# Altium footprint library HeadersPin_1rows_F_180.PcbLib: 10 footprints
Each footprint in its own frame and in the unit in brackets; x right, y up, seen from the top. Pads: shape width x height; smd on the part's side, far side on the other; paste and mask are expansions set on the pad; w line width, h text height; cw(c..) or ccw(c..) is an arc to the next point about the centre after c.
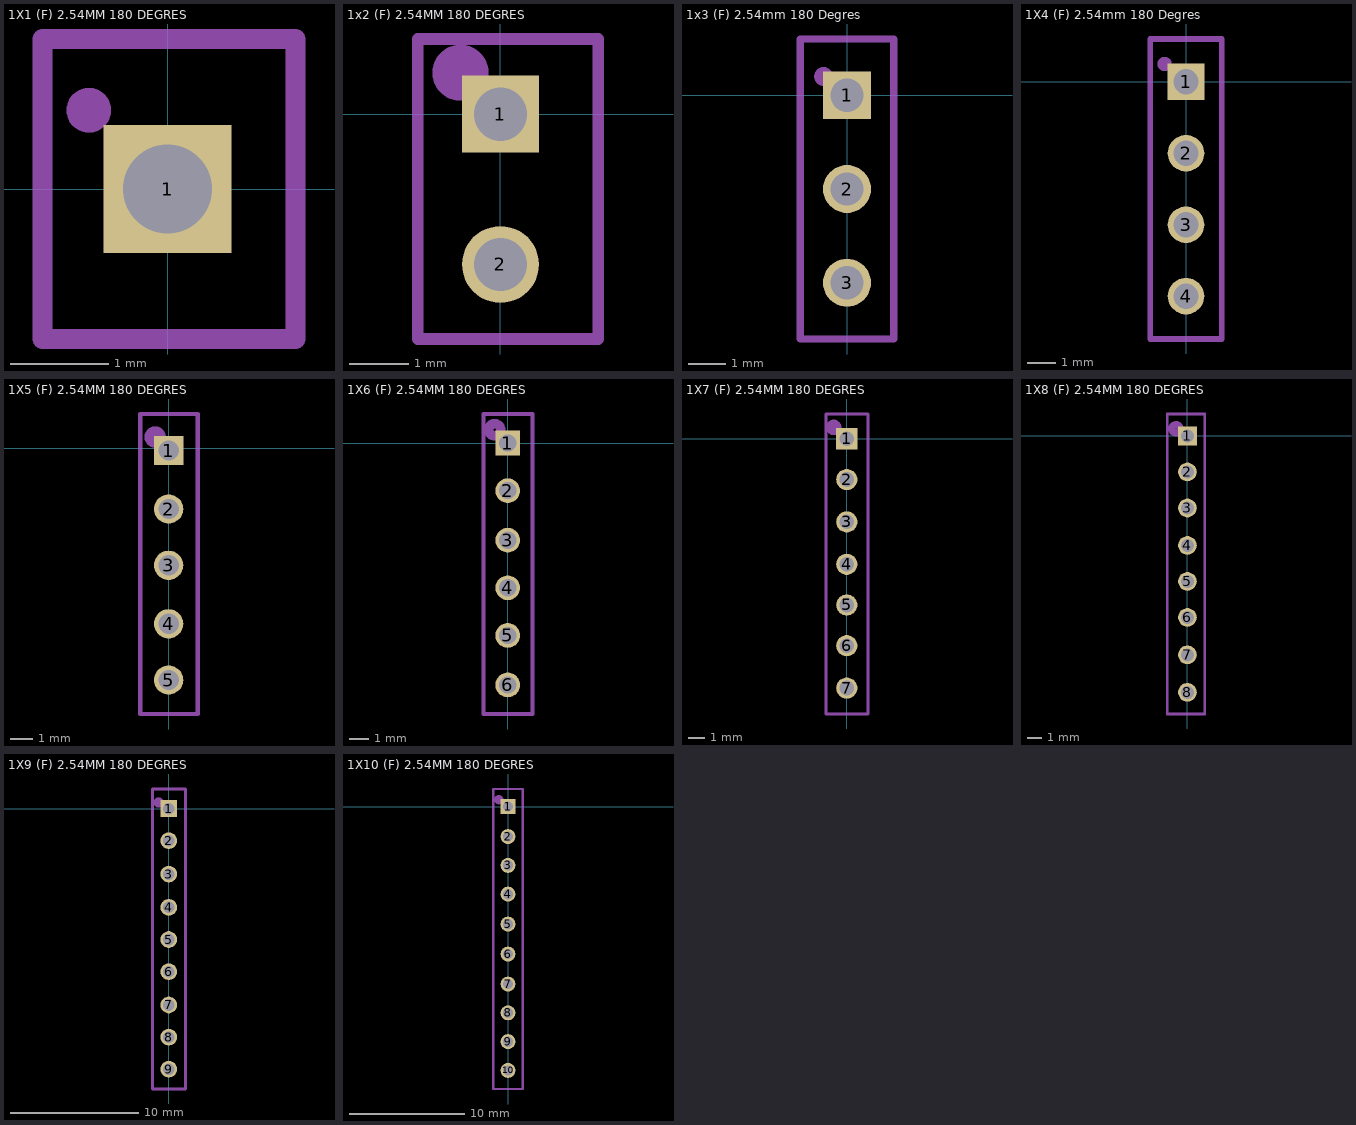
[diagram p0: the footprints below, top view; thin cyan lines are the x and y axes]

## 1X1 (F) 2.54MM 180 DEGRES [mm]
pads (1):
  rect 1.3x1.3 hole 0.9 mask+0.05: 1(0,0)
Mechanical 2:
  circle w0.254: c-0.8,0.8 r0.1
  lines w0.2: -1.27,-1.524 1.3,-1.524 1.3,1.524 -1.27,1.524 -1.27,-1.524
  text ".Designator" at 1.252,-1.255 h1.52
3D body "1x1 Female 180 degrees.STEP": height 8.63, standoff -2.87, extent -1.27,-1.52 1.27,1.52

## 1x2 (F) 2.54MM 180 DEGRES [mm]
pads (2):
  rect 1.3x1.3 hole 0.9 mask+0.05: 1(0,0)
  round 1.3 hole 0.9 mask+0.05: 2(0,-2.54)
Mechanical 2:
  circle w0.5: c-0.676,0.7 r0.224
  lines w0.2: -1.397,-3.8 1.651,-3.8 1.651,1.27 -1.397,1.27 -1.397,-3.8
  text ".Designator" at 1.064,-3.429 h1
3D body "1x2 Female 180 degrees.STEP": height 8.63, standoff -2.87, extent -1.397,-3.77 1.643,1.23

## 1x3 (F) 2.54mm 180 Degres [mm]
pads (3):
  rect 1.3x1.3 hole 0.9 mask+0.05: 1(0,0)
  round 1.3 hole 0.9 mask+0.05: 2(0,-2.54) 3(0,-5.08)
Mechanical 2:
  circle w0.254: c-0.635,0.508 r0.127
  lines w0.2: -1.27,-6.604 1.27,-6.604 1.27,1.524 -1.27,1.524 -1.27,-6.604
  text ".Designator" at 1.064,-6.477 h1
3D body "1x3 Female 180 degrees.step": height 8.63, standoff -2.87, extent -1.27,-6.6 1.27,1.52

## 1X4 (F) 2.54mm 180 Degres [mm]
pads (4):
  rect 1.3x1.3 hole 0.9 mask+0.05: 1(0,0)
  round 1.3 hole 0.9 mask+0.05: 2(0,-2.54) 3(0,-5.08) 4(0,-7.62)
Mechanical 2:
  circle w0.254: c-0.762,0.635 r0.127
  lines w0.2: -1.27,-9.144 1.27,-9.144 1.27,1.524 -1.27,1.524 -1.27,-9.144
  text ".Designator" at 1.143,-9.017 h1.52
3D body "1x4 Female 180 degrees.STEP": height 8.63, standoff -2.87, extent -1.27,-9.14 1.27,1.52

## 1X5 (F) 2.54MM 180 DEGRES [mm]
pads (5):
  rect 1.3x1.3 hole 0.9 mask+0.05: 1(0,-0.1)
  round 1.3 hole 0.9 mask+0.05: 2(0,-2.7) 3(0,-5.2) 4(0,-7.8) 5(0,-10.3)
Mechanical 2:
  circle w0.5: c-0.6,0.5 r0.224
  lines w0.2: -1.27,-11.811 -1.27,1.524 1.3,1.524 1.3,-11.811 -1.27,-11.811
  text ".Designator" at 1.143,-11.557 h1.52
3D body "1x5 Female 180 degrees.STEP": height 8.63, standoff -2.87, extent -1.27,-11.68 1.27,1.52

## 1X6 (F) 2.54MM 180 DEGRES [mm]
pads (6):
  rect 1.3x1.3 hole 0.9 mask+0.05: 1(0,0)
  round 1.3 hole 0.9 mask+0.05: 2(0,-2.5) 3(0,-5.1) 4(0,-7.6) 5(0,-10.1) 6(0,-12.7)
Mechanical 2:
  circle w0.5: c-0.684,0.7 r0.316
  lines w0.2: -1.27,-14.224 -1.27,1.524 1.3,1.524 1.3,-14.224 -1.27,-14.224
  text ".Designator" at 1.143,-13.97 h1.52
3D body "1x6 Female 180 degrees.step": height 8.63, standoff -2.87, extent -1.27,-14.22 1.27,1.52

## 1X7 (F) 2.54MM 180 DEGRES [mm]
pads (7):
  rect 1.3x1.3 hole 0.9 mask+0.05: 1(0,0)
  round 1.3 hole 0.9 mask+0.05: 2(0,-2.5) 3(0,-5.1) 4(0,-7.7) 5(0,-10.2) 6(0,-12.7) 7(0,-15.3)
Mechanical 2:
  circle w0.5: c-0.8,0.7 r0.224
  lines w0.2: -1.27,-16.891 -1.27,1.524 1.3,1.524 1.3,-16.891 -1.27,-16.891
  text ".Designator" at 1.27,-13.081 h1.52
3D body "1x7 Female 180 degrees.STEP": height 8.63, standoff -2.87, extent -1.27,-16.84 1.27,1.44

## 1X8 (F) 2.54MM 180 DEGRES [mm]
pads (8):
  rect 1.3x1.3 hole 0.9 mask+0.05: 1(0,0)
  round 1.3 hole 0.9 mask+0.05: 2(0,-2.5) 3(0,-5) 4(0,-7.6) 5(0,-10.1) 6(0,-12.6) 7(0,-15.2) 8(0,-17.8)
Mechanical 2:
  circle w0.5: c-0.8,0.5 r0.283
  lines w0.2: -1.397,-19.304 1.2,-19.304 1.2,1.524 -1.397,1.524 -1.397,-19.304
  text ".Designator" at 1.143,-19.177 h1.52
3D body "1x8 Female 180 degrees.step": height 8.55, standoff -2.95, extent -1.397,-19.304 1.143,1.516

## 1X9 (F) 2.54MM 180 DEGRES [mm]
pads (9):
  rect 1.3x1.3 hole 0.9 mask+0.05: 1(0,0)
  round 1.3 hole 0.9 mask+0.05: 2(0,-2.5) 3(0,-5.1) 4(0,-7.7) 5(0,-10.2) 6(0,-12.7) 7(0,-15.3) 8(0,-17.8) 9(0,-20.3)
Mechanical 2:
  circle w0.5: c-0.8,0.473 r0.141
  lines w0.2: -1.27,-21.844 -1.27,1.524 1.3,1.524 1.3,-21.844 -1.27,-21.844
  text ".Designator" at 1.651,-18.796 h1.52
3D body "1x9 Female 180 degrees.step": height 8.63, standoff -2.87, extent -1.27,-21.844 1.27,1.516

## 1X10 (F) 2.54MM 180 DEGRES [mm]
pads (10):
  rect 1.3x1.3 hole 0.9 mask+0.05: 1(0,0)
  round 1.3 hole 0.9 mask+0.05: 2(0,-2.6) 3(0,-5.1) 4(0,-7.6) 5(0,-10.2) 6(0,-12.8) 7(0,-15.4) 8(0,-17.9) 9(0,-20.4) 10(0,-22.9)
Mechanical 2:
  circle w0.4: c-0.8,0.6 r0.2
  lines w0.2: -1.27,-24.511 -1.27,1.524 1.27,1.524 1.27,-24.511 -1.27,-24.511
  text ".Designator" at 1.778,-18.923 h1.52
3D body "1x10 Female 180 degrees.step": height 8.63, standoff -2.87, extent -1.27,-24.376 1.27,1.524